# EAGLE library part OPA2134 (library 1)
OPA2134 Dual Audio Op Amp
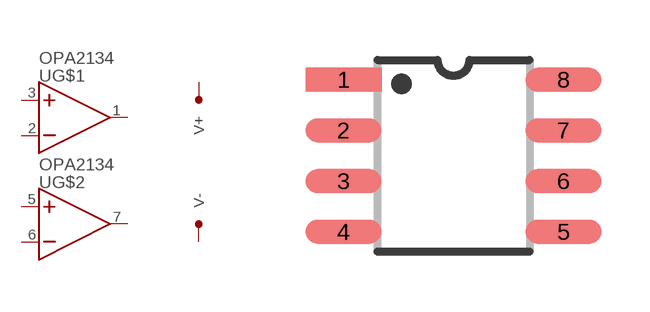
[diagram p29: symbol with the pads of SOIC-8; footprint SOIC-8]

Designator prefix -; gates G$1=OPAMP2 G$2=OPAMP2 G$3=V+ G$4=V-

## OPA2134SO-8  [SOIC-8]
1  G$1:OUT
2  G$1:-IN
3  G$1:+IN
4  G$4:V-
5  G$2:+IN
6  G$2:-IN
7  G$2:OUT
8  G$3:V+

## Footprint SOIC-8 (pad centres in mm)
SOIC-8
smd 1.9 x 0.6: 1 -2.75,1.905; 2 -2.75,0.635; 3 -2.75,-0.635; 4 -2.75,-1.905; 5 2.75,-1.905; 6 2.75,-0.635; 7 2.75,0.635; 8 2.75,1.905